# EAGLE library part DW1000 (library DWM)
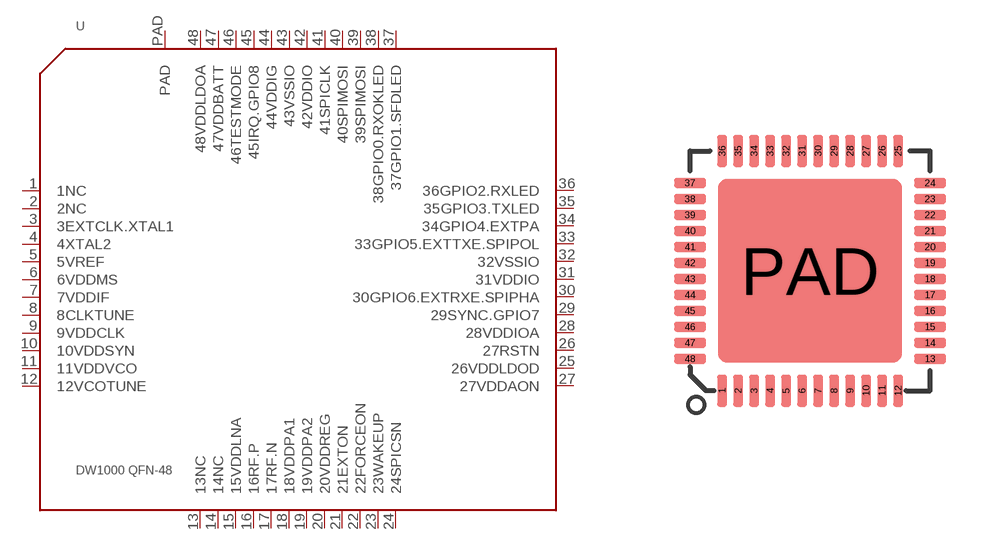
[diagram p0: symbol with the pads of QFN48G-0.4-6X6MM; footprint QFN48G-0.4-6X6MM]

Designator prefix -

## DW1000  [QFN48G-0.4-6X6MM]
1  1NC
2  2NC
3  3EXTCLK.XTAL1
4  4XTAL2
5  5VREF
6  6VDDMS
7  7VDDIF
8  8CLKTUNE
9  9VDDCLK
10  10VDDSYN
11  11VDDVCO
12  12VCOTUNE
13  13NC
14  14NC
15  15VDDLNA
16  16RF.P
17  17RF.N
18  18VDDPA1
19  19VDDPA2
20  20VDDREG
21  21EXTON
22  22FORCEON
23  23WAKEUP
24  24SPICSN
25  26VDDLDOD
26  27RSTN
27  27VDDAON
28  28VDDIOA
29  29SYNC.GPIO7
30  30GPIO6.EXTRXE.SPIPHA
31  31VDDIO
32  32VSSIO
33  33GPIO5.EXTTXE.SPIPOL
34  34GPIO4.EXTPA
35  35GPIO3.TXLED
36  36GPIO2.RXLED
37  37GPIO1.SFDLED
38  38GPIO0.RXOKLED
39  39SPIMOSI
40  40SPIMOSI
41  41SPICLK
42  42VDDIO
43  43VSSIO
44  44VDDIG
45  45IRQ.GPIO8
46  46TESTMODE
47  47VDDBATT
48  48VDDLDOA
PAD  PAD

## Footprint QFN48G-0.4-6X6MM (pad centres in mm)
smd 0.25 x 0.8: 1 -2.2,-3; 2 -1.8,-3; 3 -1.4,-3; 4 -1,-3; 5 -0.6,-3; 6 -0.2,-3; 7 0.2,-3; 8 0.6,-3; 9 1,-3; 10 1.4,-3; 11 1.8,-3; 12 2.2,-3; 25 2.2,3; 26 1.8,3; 27 1.4,3; 28 1,3; 29 0.6,3; 30 0.2,3; 31 -0.2,3; 32 -0.6,3; 33 -1,3; 34 -1.4,3; 35 -1.8,3; 36 -2.2,3
smd 0.8 x 0.25: 13 3,-2.2; 14 3,-1.8; 15 3,-1.4; 16 3,-1; 17 3,-0.6; 18 3,-0.2; 19 3,0.2; 20 3,0.6; 21 3,1; 22 3,1.4; 23 3,1.8; 24 3,2.2; 37 -3,2.2; 38 -3,1.8; 39 -3,1.4; 40 -3,1; 41 -3,0.6; 42 -3,0.2; 43 -3,-0.2; 44 -3,-0.6; 45 -3,-1; 46 -3,-1.4; 47 -3,-1.8; 48 -3,-2.2
smd 4.6 x 4.6: PAD 0,0